# Altium integrated library EG1247.IntLib: 1 symbol
Pins are listed as number, name and electrical type; pins without a type are passive.

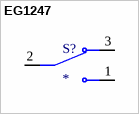
[diagram p0: symbol EG1247]

## EG1247
designator S?
Slide Switch SPDT Through Hole, Right Angle; MF: E-Switch; MP: EG1247; Availability: In Stock; Value: *; Price: None; Check_prices: https://www.snapeda.com/parts/EG1247/E-Switch/view-part/?ref=eda; Purchase-URL: https://pricing.snapeda.com/search/part/EG1247/?ref=eda; SnapEDA_Link: https://www.snapeda.com/parts/EG1247/E-Switch/view-part/?ref=snap; Package: None
footprint SW_EG1247
pins: 1, 2, 3